# Altium schematic symbol library LQH3NPN151MGRL.SchLib: 1 symbol
Pins are listed as number, name and electrical type; pins without a type are passive.

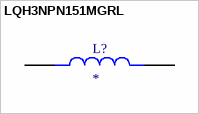
[diagram p0: symbol LQH3NPN151MGRL]

## LQH3NPN151MGRL
designator L?
Fixed Ind 22uh 750ma 636 Mohm; MP: LQH3NPN151MGRL; Package: None; Price: None; Value: *; Availability: Unavailable
footprint IND_LQH3NPN151MGRL
pins: 1, 2